# EAGLE library part MKL16Z32VFM4 (library GTA04b7)
Freescale Kinetis 48 MHz Cortex-M0+ Based Microcontroller
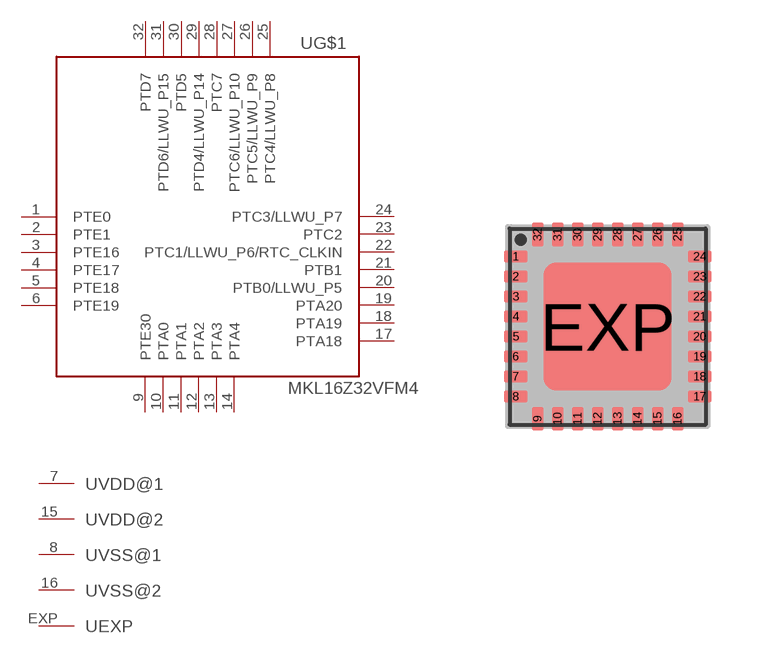
[diagram p28: symbol with the pads of QFN-32+E-0.5; footprint QFN-32+E-0.5]

Designator prefix -; gates EXP=PIN-GENERIC G$1=MKL16-32QFN VDD@1=PIN-GENERIC VDD@2=PIN-GENERIC VSS@1=PIN-GENERIC VSS@2=PIN-GENERIC

## MKL16Z32VFM4  [QFN-32+E-0.5]
1  G$1:PTE0
2  G$1:PTE1
3  G$1:PTE16
4  G$1:PTE17
5  G$1:PTE18
6  G$1:PTE19
7  VDD@1:PIN  pas
8  VSS@1:PIN  pas
9  G$1:PTE30
10  G$1:PTA0
11  G$1:PTA1
12  G$1:PTA2
13  G$1:PTA3
14  G$1:PTA4
15  VDD@2:PIN  pas
16  VSS@2:PIN  pas
17  G$1:PTA18
18  G$1:PTA19
19  G$1:PTA20
20  G$1:PTB0/LLWU_P5
21  G$1:PTB1
22  G$1:PTC1/LLWU_P6/RTC_CLKIN
23  G$1:PTC2
24  G$1:PTC3/LLWU_P7
25  G$1:PTC4/LLWU_P8
26  G$1:PTC5/LLWU_P9
27  G$1:PTC6/LLWU_P10
28  G$1:PTC7
29  G$1:PTD4/LLWU_P14
30  G$1:PTD5
31  G$1:PTD6/LLWU_P15
32  G$1:PTD7
EXP  EXP:PIN  pas

## Footprint QFN-32+E-0.5 (pad centres in mm)
QFN 32-0.5mm Source: http://www.ftdichip.com/Documents/DataSheets/DS_FT232R_v104.pdf
smd 0.6 x 0.3: 1 -2.3,1.75; 2 -2.3,1.25; 3 -2.3,0.75; 4 -2.3,0.25; 5 -2.3,-0.25; 6 -2.3,-0.75; 7 -2.3,-1.25; 8 -2.3,-1.75; 17 2.3,-1.75; 18 2.3,-1.25; 19 2.3,-0.75; 20 2.3,-0.25; 21 2.3,0.25; 22 2.3,0.75; 23 2.3,1.25; 24 2.3,1.75
smd 0.3 x 0.6: 9 -1.75,-2.3; 10 -1.25,-2.3; 11 -0.75,-2.3; 12 -0.25,-2.3; 13 0.25,-2.3; 14 0.75,-2.3; 15 1.25,-2.3; 16 1.75,-2.3; 25 1.75,2.3; 26 1.25,2.3; 27 0.75,2.3; 28 0.25,2.3; 29 -0.25,2.3; 30 -0.75,2.3; 31 -1.25,2.3; 32 -1.75,2.3
smd 3.2 x 3.2: EXP 0,0